# Altium schematic symbol library VESC_MotorController.SCHLIB: 80 symbols
Pins are listed as number, name and electrical type; pins without a type are passive.

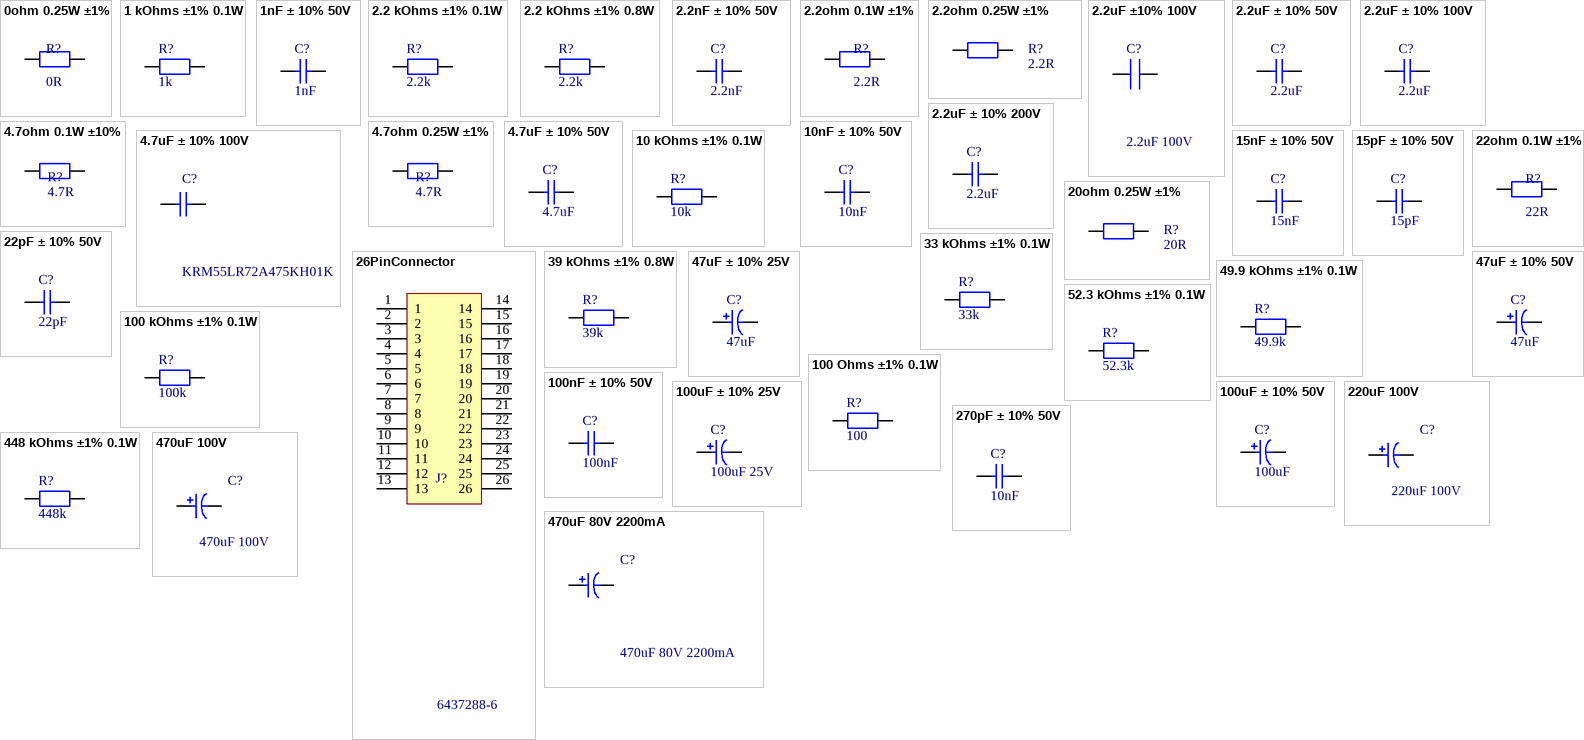
[diagram p0: symbols 0ohm 0.25W ±1% to 470uF 100V]

## 0ohm 0.25W ±1%
designator R?, comment 0R
0 ohm 0.25W ±1%; Manufacturer Part Number: RC1206FR-070RL; Manufacturer: Yageo; Value: 0R; Supplier Part Number: 603-RC1206FR-070RL
footprint R1206
footprint R0603 (RESISTOR SMD 0603)
pins: 1, 2

## 1 kOhms ±1% 0.1W
designator R?, comment 1k
1 kOhms ±1% 0.1W; Manufacturer: Yageo; Manufacturer Part Number: RC0603FR-071KL; Value: 1k; Supplier: Mouser; Supplier Part Number: 603-RC0603FR-071KL; Price: 0.1
footprint R0603 (Footprint not found)
pins: 1, 2

## 1nF ± 10% 50V
designator C?, comment 1nF
1nF ± 10% 50V; Manufacturer: Yageo; Manufacturer Part Number: CS0603KRX79BB102; Value: 1nF; Supplier: mouser; Supplier Part Number: 603-CS0603KRX79BB102; Price: 0.1
footprint C0402
pins: 1, 2

## 2.2 kOhms ±1% 0.1W
designator R?, comment 2.2k
2.2 kOhms ±1% 0.1W; Manufacturer: Yageo; Manufacturer Part Number: RC0603FR-072K2L; Value: 2.2k; Supplier: Mouser; Supplier Part Number: 603-RC0603FR-072K2L; Price: 0.1
footprint R0603 (Footprint not found)
pins: 1, 2

## 2.2 kOhms ±1% 0.8W
designator R?, comment 2.2k
2.2 kOhms ±1% 0.8W; Manufacturer: Yageo; Manufacturer Part Number: RT0805FRE072K2L; Value: 2.2k; Supplier: mouser; Supplier Part Number: 603-RT0805FRE072K2L; Price: 0.1
footprint R0805
pins: 1, 2

## 2.2nF ± 10% 50V
designator C?, comment 2.2nF
2.2nF ± 10% 50V; Manufacturer: Yageo; Manufacturer Part Number: CS0603KRX79BB222; Value: 2.2nF; Supplier: mouser; Supplier Part Number: 603-CS0603KRX79BB222; Price: 0.1
footprint C0402
footprint C0603 (CAPACITOR SMD 0603)
pins: 1, 2

## 2.2ohm 0.1W ±1%
designator R?, comment 2.2R
2.2 ohm 0.1W ±1%; Manufacturer Part Number: RC0603FR-072R2L; Manufacturer: Yageo; Value: 2.2R; Supplier: Mouser; Supplier Part Number: 603-RC0603FR-072R2L; Price: 0.1
footprint R0603 (Footprint not found)
pins: 1, 2

## 2.2ohm 0.25W ±1%
designator R?, comment 2.2R
2.2 ohm 0.25W ±1%; Manufacturer Part Number: RC1206FR-072R2L; Manufacturer: Yageo; Value: 2.2R; Supplier: Mouser; Supplier Part Number: 603-RC1206FR-072R2L; Price: 0.12
footprint R1206 (Footprint not found)
pins: 1, 2

## 2.2uF ±10% 100V
designator C?, comment 2.2uF 100V
Multilayer Ceramic Capacitors MLCC - SMD/SMT 100V 2.2uF X7R 1206 20%TOL HIGH CV; Manufacturer: KYOCERA AVX; Manufacturer Part Number: 12061C225MAT2A; Supplier Part Number: 581-12061C225MAT2A; Supplier: Mouser; Value: 2.2uF 100V; Price: 0.5
footprint CAPC3216X178N
pins: 1, 2

## 2.2uF ± 10% 50V
designator C?, comment 2.2uF
2.2uF ± 10% 50V; Manufacturer: Yageo; Manufacturer Part Number: GRM188R61H225ME11J; Value: 2.2uF; Supplier: mouser; Supplier Part Number: 81-GRM188R61H225ME1J; Price: 0.3
footprint C0603 (Footprint not found)
pins: 1, 2

## 2.2uF ± 10% 100V
designator C?, comment 2.2uF
Multilayer Ceramic Capacitors MLCC - SMD/SMT 1206 100VDC 2.2uF 10% X7S MID HIGH VOL; Manufacturer: Taiyo Yuden; Manufacturer Part Number: HMK316AC7225KL-TE; Value: 2.2uF; Supplier: mouser; Supplier Part Number: 963-HMK316AC7225KL; Price: 0.52
footprint CAPC5764X279N
pins: 1, 2

## 2.2uF ± 10% 200V
designator C?, comment 2.2uF
Multilayer Ceramic Capacitors MLCC - SMD/SMT 200V 2.2uF X7R 2225 10%; Manufacturer: Kyocera avx; Manufacturer Part Number: 22252C225KAT2A; Value: 2.2uF; Supplier: mouser; Supplier Part Number: 581-22252C225KAT2A; Price: 2.4
footprint CAPC5764X279N
pins: 1, 2

## 4.7ohm 0.1W ±10%
designator R?, comment 4.7R
4.7 ohm 0.1W ±1%; Manufacturer Part Number: RC1206FR-074R7L; Manufacturer: Yageo; Value: 4.7R; Supplier: Mouser; Supplier Part Number: 603-RC1206FR-074R7L; Price: 0.12
footprint R0603 (RESISTOR SMD 0603)
pins: 1, 2

## 4.7ohm 0.25W ±1%
designator R?, comment 4.7R
4.7 ohm 0.25W ±1%; Manufacturer Part Number: RC1206FR-074R7L; Manufacturer: Yageo; Value: 4.7R; Supplier: Mouser; Supplier Part Number: 603-RC1206FR-074R7L; Price: 0.12
footprint R1206 (Footprint not found)
pins: 1, 2

## 4.7uF ± 10% 50V
designator C?, comment 4.7uF
4.7uF ± 10% 50V; Manufacturer: Yageo; Manufacturer Part Number: GRM188R61H225ME11J; Value: 4.7uF; Supplier: mouser; Supplier Part Number: 81-GRM188R61H225ME1J; Price: 0.3
footprint C0603 (Footprint not found)
pins: 1, 2

## 4.7uF ± 10% 100V
designator C?, comment KRM55LR72A475KH01K
Capacitor KRM55 L=6.1mm W=5.3mm T=2.8mm; Manufacturer: Murata Electronics; Value: 4.7uF 100V; Supplier Part Number: 81-KRM55LR72A475KH1K; Supplier: Mouser; Manufacturer Part Number: KRM55LR72A475KH01K; Price: 3.2
footprint CAPC6153X300N
pins: 1, 2

## 10 kOhms ±1% 0.1W
designator R?, comment 10k
10 kOhms ±1% 0.1W; Manufacturer: Yageo; Manufacturer Part Number: RC0603FR-0710KL; Value: 10k; Supplier: mouser; Supplier Part Number: 603-RC0603FR-0710KL; Price: 0.1
footprint R0603 (Footprint not found)
pins: 1, 2

## 10nF ± 10% 50V
designator C?, comment 10nF
10nF ± 10% 50V; Manufacturer: Yageo; Manufacturer Part Number: CS0603KRX79BB103; Value: 10nF; Supplier: mouser; Supplier Part Number: 603-CS0603KRX79BB103; Price: 0.1
footprint C0402
footprint C0603 (CAPACITOR SMD 0603)
pins: 1, 2

## 15nF ± 10% 50V
designator C?, comment 15nF
15nF ± 10% 50V; Manufacturer: Yageo; Manufacturer Part Number: CS0603KRX79BB153; Value: 15nF; Supplier: mouser; Supplier Part Number: 603-CS0603KRX79BB153; Price: 0.1
footprint C0402
footprint C0603 (CAPACITOR SMD 0603)
pins: 1, 2

## 15pF ± 10% 50V
designator C?, comment 15pF
15pF ± 10% 50V; Manufacturer: Yageo; Manufacturer Part Number: CS0603KRX79BB150; Value: 15pF; Supplier: mouser; Supplier Part Number: 603-CS0603KRX79BB150; Price: 0.1
footprint C0402
footprint C0603 (CAPACITOR SMD 0603)
pins: 1, 2

## 20ohm 0.25W ±1%
designator R?, comment 20R
20 ohm 0.25W ±1%; Manufacturer Part Number: RC1206FR-0720RL; Manufacturer: Yageo; Value: 20R; Supplier: Mouser; Supplier Part Number: 603-RC1206FR-0720RL; Price: 0.12
footprint R1206 (Footprint not found)
pins: 1, 2

## 22ohm 0.1W ±1%
designator R?, comment 22R
22 ohm 0.1W ±1%; Manufacturer Part Number: RC0603FR-0722RL; Manufacturer: Yageo; Value: 22R; Supplier: Mouser; Supplier Part Number: 603-RC0603FR-0722RL; Price: 0.1
footprint R0603 (Footprint not found)
pins: 1, 2

## 22pF ± 10% 50V
designator C?, comment 22pF
22pF ± 10% 50V; Manufacturer: Yageo; Manufacturer Part Number: CS0603KRX79BB220; Value: 22pF; Supplier: mouser; Supplier Part Number: 603-CS0603KRX79BB220; Price: 0.1
footprint C0402
footprint C0603 (CAPACITOR SMD 0603)
pins: 1, 2

## 26PinConnector
designator J?, comment 6437288-6
Header vert 26 way 4 row Tab Superseal; Manufacturer: TE Connectivity; Supplier Part Number: 571-6437288-6; Manufacturer Part Number: 6437288-6; Supplier: Mouser; Value: 6437288-6
footprint 64372886
pins: 1, 2, 3, 4, 5, 6, 7, 8, 9, 10, 11, 12, 13, 14, 15, 16, 17, 18, 19, 20, 21, 22, 23, 24, 25, 26

## 33 kOhms ±1% 0.1W
designator R?, comment 33k
33 kOhms ±1% 0.1W; Manufacturer: Yageo; Manufacturer Part Number: RC0603FR-0733KL; Value: 33k; Supplier: mouser; Supplier Part Number: 603-RC0603FR-0733KL; Price: 0.1
footprint R0603 (Footprint not found)
pins: 1, 2

## 39 kOhms ±1% 0.8W
designator R?, comment 39k
39 kOhms ±1% 0.8W; Manufacturer: Yageo; Manufacturer Part Number: RT0805FRE0739KL; Value: 39k; Supplier: mouser; Supplier Part Number: 603-RT0805FRE0739KL; Price: 0.1
footprint R1206
pins: 1, 2

## 47uF ± 10% 25V
designator C?, comment 47uF
47uF ± 10% 25V; Manufacturer: Wurth Electronic; Manufacturer Part Number: 860040472001; Value: 47uF; Supplier: mouser; Supplier Part Number: 710-860040472001; Price: 0.18
footprint CAPPRD200W52D500H1250
pins: 1, 2

## 47uF ± 10% 50V
designator C?, comment 47uF
47uF ± 10% 50V; Manufacturer: Kemet; Manufacturer Part Number: ESY476M050AE3AA; Value: 47uF; Supplier: mouser; Supplier Part Number: 80-ESY476M050AE3AA; Price: 0.3
footprint CAPPRD250W50D630H1250
pins: 1, 2

## 49.9 kOhms ±1% 0.1W
designator R?, comment 49.9k
49.9 kOhms ±1% 0.1W; Manufacturer: Yageo; Manufacturer Part Number: RC0603FR-0749K9L; Value: 49.9k; Supplier: mouser; Supplier Part Number: 603-RC0603FR-0749K9L; Price: 0.1
footprint R0603 (Footprint not found)
pins: 1, 2

## 52.3 kOhms ±1% 0.1W
designator R?, comment 52.3k
52.3 kOhms ±1% 0.1W; Manufacturer: Yageo; Manufacturer Part Number: RC0603FR-0752K3L; Value: 52.3k; Supplier: mouser; Supplier Part Number: 603-RC0603FR-0752K3L; Price: 0.1
footprint R0603 (Footprint not found)
pins: 1, 2

## 100 kOhms ±1% 0.1W
designator R?, comment 100k
100 kOhms ±1% 0.1W; Manufacturer: Yageo; Manufacturer Part Number: RC0603FR-07100KL; Value: 100k; Supplier: mouser; Supplier Part Number: 603-RC0603FR-07100KL; Price: 0.1
footprint R0603 (Footprint not found)
pins: 1, 2

## 100 Ohms ±1% 0.1W
designator R?, comment 100
100 Ohms ±1% 0.1W; Manufacturer: Yageo; Manufacturer Part Number: RC0603FR-0710KL; Value: 100; Supplier: mouser; Supplier Part Number: 603-RC0603FR-0710KL; Price: 0.1
footprint R0603 (Footprint not found)
pins: 1, 2

## 100nF ± 10% 50V
designator C?, comment 100nF
100nF ± 10% 50V; Manufacturer: Yageo; Manufacturer Part Number: CS0603KRX7R9BB104; Value: 100nF; Supplier: mouser; Supplier Part Number: 603-CS0603KRX79BB104; Price: 0.1
footprint C0402
footprint C0603 (CAPACITOR SMD 0603)
pins: 1, 2

## 100uF ± 10% 25V
designator C?, comment 100uF 25V
100uF ± 10% 25V; Manufacturer: Kemet; Manufacturer Part Number: ESK107M025AE3AA; Value: 100uF 25V; Supplier: mouser; Supplier Part Number: 80-ESK107M025AE3AA; Price: 0.25
footprint CAPPRD250W50D630H1250
pins: 1, 2

## 100uF ± 10% 50V
designator C?, comment 100uF
100uF ± 10% 50V; Manufacturer: Kemet; Manufacturer Part Number: ESH107M050AG3AA; Value: 100uF; Supplier: mouser; Supplier Part Number: 80-ESH107M050AG3AA; Price: 0.4
footprint CAPPRD350W60D800H1250
pins: 1, 2

## 220uF 100V
designator C?
Aluminum Electrolytic Capacitors - Radial Leaded Al Lytic Cap 85C Radial M Series; Manufacturer: Panasonic; Manufacturer Part Number: ECA-2AM221B; Suplier: Mouser; Supplier Part Number: 667-ECA-2AM221B; Price: 1; Value: 220uF 100V
footprint CAPPRD500W65D1250H2200
pins: 1, 2

## 270pF ± 10% 50V
designator C?, comment 10nF
270pF ± 10% 50V; Manufacturer: Yageo; Manufacturer Part Number: CS0603KRX79BB271; Value: 10nF; Supplier: mouser; Supplier Part Number: 603-CS0603KRX79BB271; Price: 0.1
footprint C0402
footprint C0603 (CAPACITOR SMD 0603)
pins: 1, 2

## 448 kOhms ±1% 0.1W
designator R?, comment 448k
448 kOhms ±1% 0.1W; Manufacturer: Yageo; Manufacturer Part Number: RC0603FR-07448KL; Value: 448k; Supplier: mouser; Supplier Part Number: 603-RC0603FR-07448KL; Price: 0.1
footprint R0603 (Footprint not found)
pins: 1, 2

## 470uF 80V 2200mA
designator C?
Aluminum Electrolytic Capacitors - Radial Leaded 80VDC 470uF 2200mA Polar; Manufacturer: Panasonic; Manufacturer Part Number: EEU-FS1K471L; Supplier Part Number: 667-EEU-FS1K471L; Supplier: Mouser; Value: 470uF 80V; Price: 2
footprint CAPPRD500W80D1250H3200
pins: 1, 2

## 470uF 100V
designator C?
Aluminum Electrolytic Capacitors - Radial Leaded 100volts 470uF 20% 16X35.5 7.5LS; Manufacturer: Nichicon; Manufacturer Part Number: UHE2A471MHD; Suplier: Mouser; Supplier Part Number: 647-UHE2A471MHD; Price: 2; Value: 470uF 100V
footprint CAPPRD750W80D1625H4150
pins: 1, 2

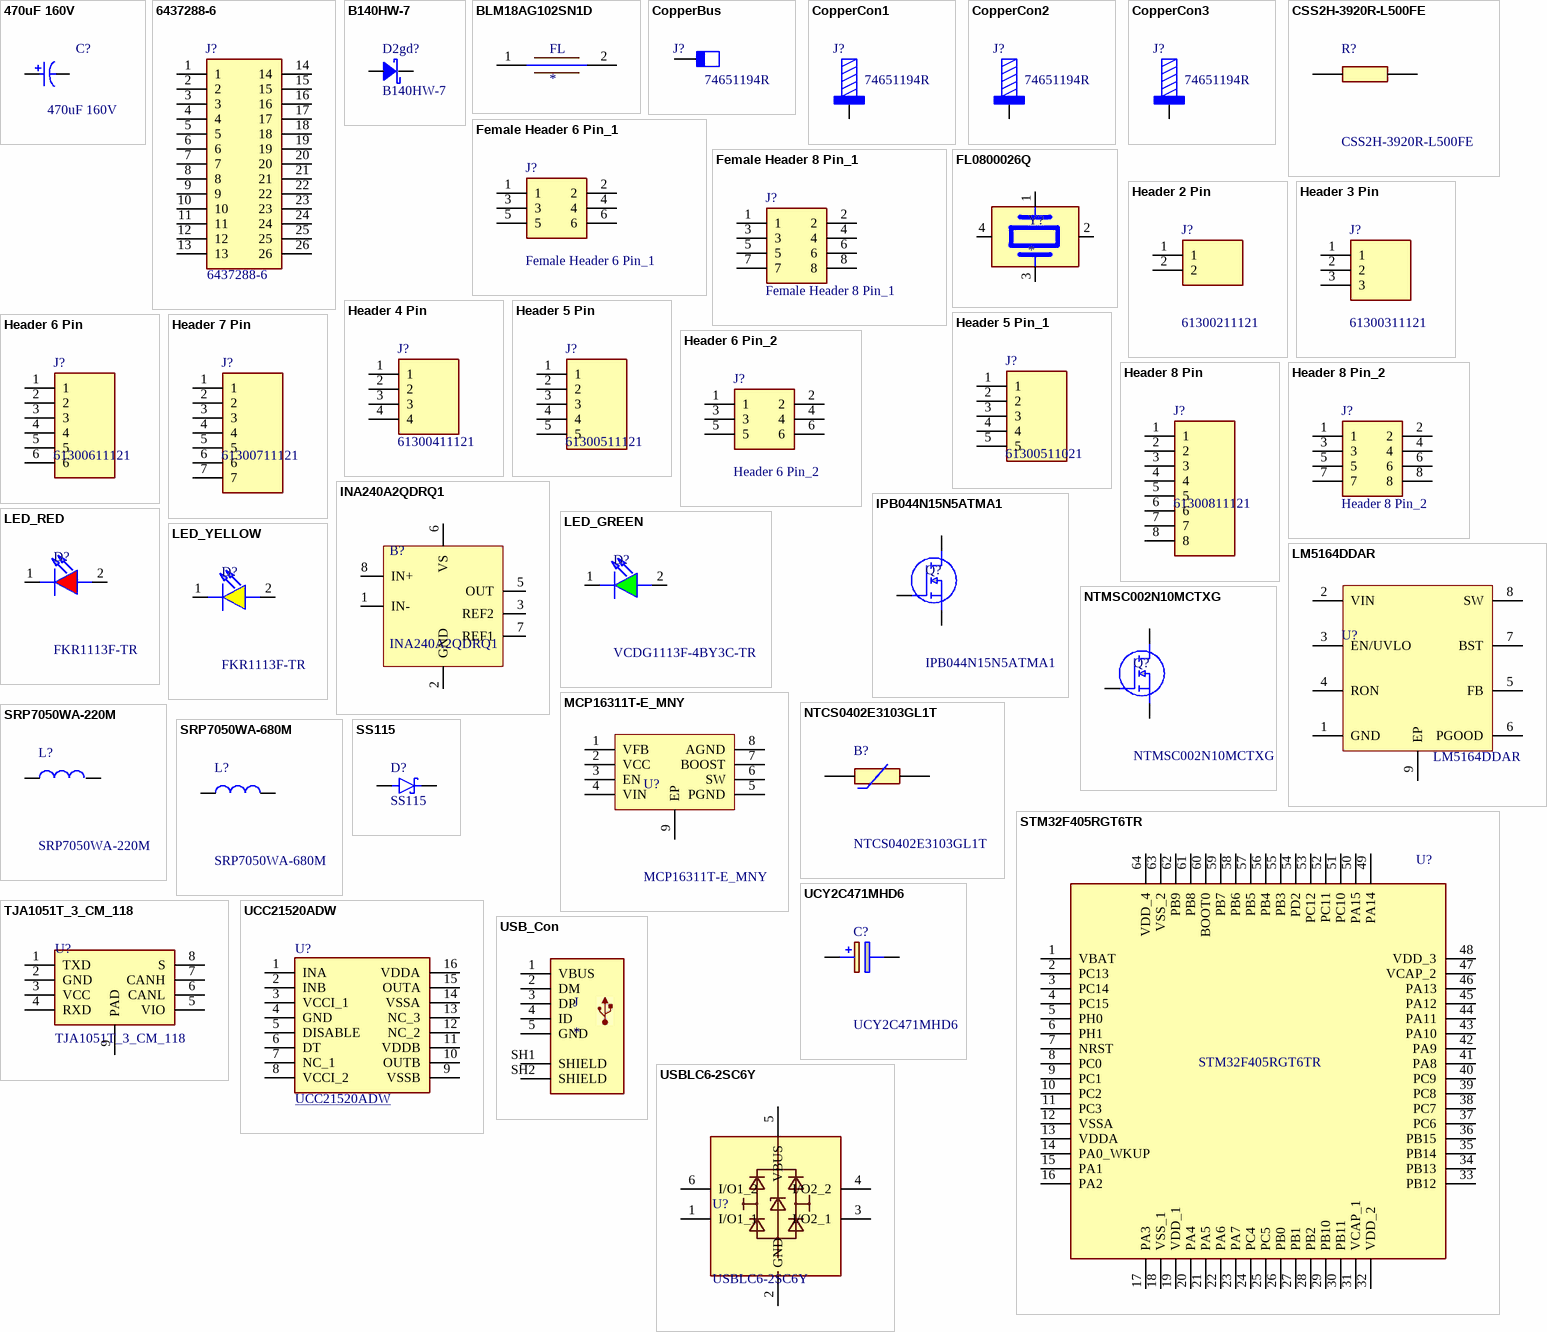
[diagram p1: symbols 470uF 160V to USBLC6-2SC6Y]

## 470uF 160V
designator C?
Cornell-Dubilier 470uF 160 V dc Aluminium Electrolytic Capacitor A3, SLP Series 3000h 22 Dia. x 30mm; Manufacturer: Cornell Dubilier; Manufacturer Part Number: SLP471M160A3P3; Suplier: Mouser; Supplier Part Number: 598-SLP471M160A3P3; Price: 3.3; Value: 470uF 160V
footprint CAPPRD1000W190D2250H3200
pins: 1, 2

## 6437288-6
designator J?
Header vert 26 way 4 row Tab Superseal; Manufacturer: TE Connectivity; Supplier Part Number: 571-6437288-6; Supplier: Mouser; Manufacturer Part Number: 6437288-6; Vlaue: 6437288-6; Price: 2
footprint 64372886
pins: 1, 2, 3, 4, 5, 6, 7, 8, 9, 10, 11, 12, 13, 14, 15, 16, 17, 18, 19, 20, 21, 22, 23, 24, 25, 26

## B140HW-7
designator D2gd?
Schottky Diodes & Rectifiers 1A, 40V; Value: B140HW-7; Manufacturer Part Number: B140HW-7; Manufacturer: Diodes; Supplier: Mouser; Supplier Part Number: 621-B140HW-7; Price: 0.42
footprint SOD123
pins: A, C

## BLM18AG102SN1D
designator FL
Ferrite Beads 1000 OHM 25% Alternate Sizing Guide Below; Manufacturer Part Number: BLM18AG102SN1D; Manufacturer: Murata; Value: BLM18AG102SN1D; Price: 0.1; Supplier Part Number: 81-BLM11A102S; Supplier: Mouser
footprint BLM18EG121SH1D
pins: 1, 2

## CopperBus
designator J?, comment 74651194R
WP-THRSH REDCUBE THR with external thread, M4 x 5mm, 85A; Manufacturer: Wurth Elektronik; Surface: Tin; ComponentLink1Description: Website Link; ComponentLink1URL: https://www.we-online.com/redexpert/article/74651194R?ad; ComponentLink2Description: Datasheet Link; ComponentLink2URL: https://www.we-online.com/redexpert/spec/74651194R?ad; Manufacturer Part Number: 74651194R; Category: REDCUBE THR; Match Code: WP-THRSH; Mount: Through Hole Reflow; Operating Temperature Max: 150°C; Operating Temperature Min: -55°C; Packaging: Tape and Reel; Length: 10mm; Width: 10mm; Height: 8.5mm; Material: Brass; Number of Pins: 9; Rated Current: 85A; Thread Length: 5mm; Thread Size: M4; Supplier: Mouser; Supplier Part Number: 710-74651195R; Price: 3.5; Value: 74651194R
footprint COPPER_BUS
pins: 1

## CopperCon1
designator J?, comment 74651194R
WP-THRSH REDCUBE THR with external thread, M4 x 5mm, 85A; Manufacturer: Wurth Elektronik; Surface: Tin; ComponentLink1Description: Website Link; ComponentLink1URL: https://www.we-online.com/redexpert/article/74651194R?ad; ComponentLink2Description: Datasheet Link; ComponentLink2URL: https://www.we-online.com/redexpert/spec/74651194R?ad; Manufacturer Part Number: 74651194R; Category: REDCUBE THR; Match Code: WP-THRSH; Mount: Through Hole Reflow; Operating Temperature Max: 150°C; Operating Temperature Min: -55°C; Packaging: Tape and Reel; Length: 10mm; Width: 10mm; Height: 8.5mm; Material: Brass; Number of Pins: 9; Rated Current: 85A; Thread Length: 5mm; Thread Size: M4; Supplier: Mouser; Supplier Part Number: 710-74651195R; Price: 3.5; Value: 74651194R
footprint COPPER_CON1
pins: 1

## CopperCon2
designator J?, comment 74651194R
WP-THRSH REDCUBE THR with external thread, M4 x 5mm, 85A; Manufacturer: Wurth Elektronik; Surface: Tin; ComponentLink1Description: Website Link; ComponentLink1URL: https://www.we-online.com/redexpert/article/74651194R?ad; ComponentLink2Description: Datasheet Link; ComponentLink2URL: https://www.we-online.com/redexpert/spec/74651194R?ad; Manufacturer Part Number: 74651194R; Category: REDCUBE THR; Match Code: WP-THRSH; Mount: Through Hole Reflow; Operating Temperature Max: 150°C; Operating Temperature Min: -55°C; Packaging: Tape and Reel; Length: 10mm; Width: 10mm; Height: 8.5mm; Material: Brass; Number of Pins: 9; Rated Current: 85A; Thread Length: 5mm; Thread Size: M4; Supplier: Mouser; Supplier Part Number: 710-74651195R; Price: 3.5; Value: 74651194R
footprint COPPER_CON2
pins: 1

## CopperCon3
designator J?, comment 74651194R
WP-THRSH REDCUBE THR with external thread, M4 x 5mm, 85A; Manufacturer: Wurth Elektronik; Surface: Tin; ComponentLink1Description: Website Link; ComponentLink1URL: https://www.we-online.com/redexpert/article/74651194R?ad; ComponentLink2Description: Datasheet Link; ComponentLink2URL: https://www.we-online.com/redexpert/spec/74651194R?ad; Manufacturer Part Number: 74651194R; Category: REDCUBE THR; Match Code: WP-THRSH; Mount: Through Hole Reflow; Operating Temperature Max: 150°C; Operating Temperature Min: -55°C; Packaging: Tape and Reel; Length: 10mm; Width: 10mm; Height: 8.5mm; Material: Brass; Number of Pins: 9; Rated Current: 85A; Thread Length: 5mm; Thread Size: M4; Supplier: Mouser; Supplier Part Number: 710-74651195R; Price: 3.5; Value: 74651194R
footprint COPPER_CON3
pins: 1

## CSS2H-3920R-L500FE
designator R?
Current Sense Resistors - SMD 0.5mOHMS 9W 1% AEC-Q200; Manufacturer: Bourns; Value: 0.5ohm 9W; Supplier Part Number: 652-CSS2H3920RL500FE; Supplier: Mouser; Manufacturer Part Number: CSS2H-3920R-L500FE; Price: 2
footprint RESC10052X137N
pins: 1, 2

## Female Header 6 Pin_1
designator J?
Headers & Wire Housings WERI Header 2,54 mm SMT; Manufacturer: Wurth Elektronik; Manufacturer Part Number: 61030621821; Value: 61030621821; Supplier Part Number: 710-61030621821; Supplier: Mouser; Price: 1.8
footprint 61030621821
pins: 1, 2, 3, 4, 5, 6

## Female Header 8 Pin_1
designator J?
Headers & Wire Housings WR-PHD 250VAC 3A Gry 2Row 8Pos Strgt; Manufacturer: Wurth Elektronik; Manufacturer Part Number: 61030821821; Value: 61030821821; Supplier Part Number: 710-61030821821; Supplier: Mouser; Price: 1.8
footprint 61030821821
pins: 1, 2, 3, 4, 5, 6, 7, 8

## FL0800026Q
designator Y?
8 MHz A±30ppm Crystals Crystal Ceramic SEAM3225 T&R 3K; Manufacturer: Diodes Incorporated; Manufacturer Part Number: FL0800026Q; Value: 8MHz; Price: 0.38; Supplier: Mouser; Supplier Part Number: 621-FL0800026Q
footprint XTAL_FL0800026Q
pins: 1, 2 GND (power), 3 2, 4 GND (power)

## Header 2 Pin
designator J?, comment 61300211121
Headers & Wire Housings WR-PHD 2.54mm 2Pin T HT Header; Manufacturer: Wurth Electronic; Supplier Part Number: 710-61300211121; Supplier: Mouser; Manufacturer Part Number: 61300211121; Price: 0.13; Value: 61300211121
footprint 61300211121
pins: 1, 2

## Header 3 Pin
designator J?, comment 61300311121
Headers & Wire Housings WR-PHD 2.54mm Hdr 3P Single Str Gold; Manufacturer: Wurth Electronic; Supplier Part Number: 710-61300311121; Supplier: Mouser; Manufacturer Part Number: 61300311121; Price: 0.13; Value: 61300311121
footprint 61300311121
pins: 1, 2, 3

## Header 4 Pin
designator J?, comment 61300411121
Headers & Wire Housings WR-PHD 2.54mm Hdr 4P Single Str Gold; Manufacturer: Wurth Electronic; Supplier Part Number: 710-61300411121; Supplier: Mouser; Manufacturer Part Number: 61300411121; Price: 0.19; Value: 61300411121
footprint 61300411121
pins: 1, 2, 3, 4

## Header 5 Pin
designator J?, comment 61300511121
Headers & Wire Housings WR-PHD 2.54mm Hdr 5P Single Str Gold; Manufacturer: Wurth Electronic; Supplier Part Number: 710-61300511121; Supplier: Mouser; Manufacturer Part Number: 61300511121; Price: 0.26; Value: 61300511121
footprint 61300511121
pins: 1, 2, 3, 4, 5

## Header 5 Pin_1
designator J?, comment 61300511021
Headers & Wire Housings WR-PHD 2.54mm Hdr 5P Single RA Gold; Manufacturer: Wurth Electronic; Supplier Part Number: 710-61300511021; Supplier: Mouser; Manufacturer Part Number: 61300511021; Price: 0.44; Value: 61300511021
footprint 61300511021 (Pin Header, pitch 2.54 mm, THT, Vertical, single row, 5p)
pins: 1, 2, 3, 4, 5

## Header 6 Pin
designator J?, comment 61300611121
Headers & Wire Housings WR-PHD 2.54mm Hdr 5P Single Str Gold; Manufacturer: Wurth Electronic; Supplier Part Number: 710-61300611121; Supplier: Mouser; Manufacturer Part Number: 61300611121; Price: 0.35; Value: 61300611121
footprint 61300611121
pins: 1, 2, 3, 4, 5, 6

## Header 6 Pin_2
designator J?
WR-PHD 2.54mm  Dual Pin Header THT 06p Wurth Elektronik WR-PHD Series, Series Number 6130, 2.54mm Pitch 6 Way 2 Row Straight PCB Header, Solder Termination; Manufacturer Part Number: 61300621121; Value: 61300621121; Supplier Part Number: 710-61300621121; Supplier: Mouser; Manufacturer: Wurth Elektronik; Price: 0.57
footprint 61300621121
pins: 1, 2, 3, 4, 5, 6

## Header 7 Pin
designator J?, comment 61300711121
Headers & Wire Housings WR-PHD 2.54mm Hdr 7P Single Str Gold; Manufacturer: Wurth Electronic; Supplier Part Number: 710-61300711121; Supplier: Mouser; Manufacturer Part Number: 61300711121; Price: 0.4; Value: 61300711121
footprint 61300711121
pins: 1, 2, 3, 4, 5, 6, 7

## Header 8 Pin
designator J?, comment 61300811121
Headers & Wire Housings WR-PHD 2.54mm Hdr 8P Single Str Gold; Manufacturer: Wurth Electronic; Supplier Part Number: 710-61300811121; Supplier: Mouser; Manufacturer Part Number: 61300811121; Price: 0.4; Value: 61300811121
footprint 61301821121
pins: 1, 2, 3, 4, 5, 6, 7, 8

## Header 8 Pin_2
designator J?
Headers & Wire Housings WR-PHD 2.54mm Hdr 8P Dual Str Gold; Manufacturer: Wurth Elektronik; Manufacturer Part Number: 61300821121; Value: 61300821121; Supplier Part Number: 710-61300621121; Supplier: Mouser; Price: 0.7
footprint 61300821121
pins: 1, 2, 3, 4, 5, 6, 7, 8

## INA240A2QDRQ1
designator B?
Automotive, High/Low Side, Bi-Directional Zer-Drift Current Sense Amp w/ Enhanced PWM Rejection; Manufacturer: Texas Instruments; Supplier Part Number: 595-INA240A2QDRQ1; Supplier: Mouser; Manufacturer Part Number: INA240A2QDRQ1; Price: 3.8; Value: INA240A2QDRQ1
footprint SOIC127P600X175-8N
pins: 1 IN-, 2 GND, 3 REF2, 5 OUT, 6 VS, 7 REF1, 8 IN+

## IPB044N15N5ATMA1
designator Q?
INFINEON - IPB044N15N5ATMA1 - Power MOSFET, N Channel, 150 V, 174 A, 0.0034 ohm, TO-263 (D2PAK), Surface Mount; Supplier Part Number: 726-IPB044N15N5ATMA1; Supplier: Mouser; Manufacturer: Infineon; Manufacturer Part Number: IPB044N15N5ATMA1; Price: 8.8; Value: IPB044N15N5ATMA1
footprint IPB044N15N5ATMA1
pins: DRAIN, GATE, SOURCE

## LED_GREEN
designator D?, comment VCDG1113F-4BY3C-TR
R/A LED; Manufacturer: Stanley Electric; Value: Green; Supplier Part Number: 327-VCDG1113F4BY3CTR; Supplier: Mouser; Manufacturer Part Number: VCDG1113F-4BY3C-TR; Price: 0.5
footprint VCDG1113F4BY3CTR
pins: 1 K, 2 A

## LED_RED
designator D?, comment FKR1113F-TR
R/A LED; Manufacturer: Stanley Electric; Value: Red; Supplier Part Number: 327-FKR1113FTR; Supplier: Mouser; Manufacturer Part Number: FKR1113F-TR; Price: 0.5
footprint VCDG1113F4BY3CTR
pins: 1 K, 2 A

## LED_YELLOW
designator D?, comment FKR1113F-TR
R/A LED; Manufacturer: Stanley Electric; Manufacturer Part Number: FKY1113F-TR; Value: Yellow; Supplier Part Number: 327-FKY1113FTR; Supplier: Mouser; Price: 0.5
footprint VCDG1113F4BY3CTR
pins: 1 K, 2 A

## LM5164DDAR
designator U?
Texas Instruments 6-V to 100-V Input, 1-A Synchronous Buck DC-DC Converter With Ultra-Low IQ 8-SO PowerPAD -40 to 150; Value: 1.7mm; Supplier Part Number: 595-LM5164DDAR; Price: 3.5; Manufacturer: Texas Instruments; Manufacturer Part Number: LM5164DDAR; Supplier: Mouser
footprint SOIC-8(EPAD)
pins: 1 GND, 2 VIN, 3 EN/UVLO, 4 RON, 5 FB, 6 PGOOD, 7 BST, 8 SW, 9 EP

## MCP16311T-E_MNY
designator U?
Microchip, MCP16311T-E/MNY Step Down DC-DC Converter 1A Adjustable, 2  24 V 8-Pin, TDFN; Supplier Part Number: 579-MCP16311T-E/MNY; Price: 1.8; Manufacturer: Microchip; Manufacturer Part Number: MCP16311T-E/MNY; Value: MCP16311T-E/MNY; Supplier: Mouser
footprint MSOP-8
pins: 1 VFB, 2 VCC, 3 EN, 4 VIN, 5 PGND, 6 SW, 7 BOOST, 8 AGND, 9 EP

## NTCS0402E3103GL1T
designator B?
NTC Thermistors 10Kohms 2% AEC-Q200; Manufacturer: Vishay; Supplier Part Number: 594-NTCS402E3103GL1T; Supplier: Mouser; Manufacturer Part Number: NTCS0402E3103GL1T; Price: 0.47; Value: NTCS0402E3103GL1T
footprint THRMC1005X65N
pins: 1, 2

## NTMSC002N10MCTXG
designator Q?
MOSFET Single N-Channel Power MOSFET 100V, 236A, 2.0mohm; Manufacturer: Onsemi; Manufacturer Part Number: NTMTSC002N10MCTXG; Supplier Part Number: 863-TMTSC002N10MCTXG; Supplier: Mouser; Price: 5.9; Value: NTMSC002N10MCTXG
footprint NTMSC002N10MCTXG
pins: DRAIN, GATE, SOURCE

## SRP7050WA-220M
designator L?
Ind,7.9x7.3x5.2mm,22uH+/-20%,5A,shd; Manufacturer: Bourns; Value: 22uH; Supplier Part Number: 652-SRP7050WA-220M; Supplier: Mouser; Manufacturer Part Number: SRP7050WA-220M; Price: 1
footprint INDPM7973X540N
pins: 1, 2

## SRP7050WA-680M
designator L?
Ind,7.9x7.3x5.2mm,68uH+/-20%,2.7A,shd; Manufacturer: Bourns; Value: 68uH; Supplier Part Number: 652-SRP7050WA-680M; Supplier: Mouser; Manufacturer Part Number: SRP7050WA-680M; Price: 1
footprint INDPM7973X540N
pins: 1, 2

## SS115
designator D?
Schottky Diodes & Rectifiers 1A, 150V, Schottky Rectifier; Manufacturer: Taiwan Semiconductor; Value: 1A, 150V; Price: 0.34; Supplier: Mouser; Manufacturer Part Number: SS115; Supplier Part Number: 821-SS115
footprint DIOM4325X250N
pins: A, C K

## STM32F405RGT6TR
designator U?
STM32F405RGT6TR, 32 bit ARM Cortex M4 MCU 168MHz 1024 kB Flash, 192 kB RAM, 2xUSB CAN I2C 64-Pin LQFP; Manufacturer: STMicroelectronics; Supplier Part Number: 511-STM32F405RGT6TR; Supplier: Mouser; Manufacturer Part Number: STM32F405RGT6TR; Value: STM32F405RGT6TR; Price: 11.6
footprint QFP50P1200X1200X160-64N
pins: 1 VBAT, 2 PC13, 3 PC14, 4 PC15, 5 PH0, 6 PH1, 7 NRST, 8 PC0, 9 PC1, 10 PC2, 11 PC3, 12 VSSA, 13 VDDA, 14 PA0_WKUP, 15 PA1, 16 PA2, 17 PA3, 18 VSS_1, 19 VDD_1, 20 PA4, 21 PA5, 22 PA6, 23 PA7, 24 PC4, 25 PC5, 26 PB0, 27 PB1, 28 PB2, 29 PB10, 30 PB11, 31 VCAP_1, 32 VDD_2, 33 PB12, 34 PB13, 35 PB14, 36 PB15, 37 PC6, 38 PC7, 39 PC8, 40 PC9, 41 PA8, 42 PA9, 43 PA10, 44 PA11, 45 PA12, 46 PA13, 47 VCAP_2, 48 VDD_3, 49 PA14, 50 PA15, 51 PC10, 52 PC11, 53 PC12, 54 PD2, 55 PB3, 56 PB4, 57 PB5, 58 PB6, 59 PB7, 60 BOOT0, 61 PB8, 62 PB9, 63 VSS_2, 64 VDD_4

## TJA1051T_3_CM_118
designator U?
CAN Interface IC BL Advanced Automotive Analog; Manufacturer: NXP Semiconductors; Manufacturer Part Number: TJA1051T/3/CM,118; Value: TJA1051T/3/CM,118; Supplier Part Number: 771-TJA1051T/3CM118; Supplier: Mouser; Price: 1.6
footprint SOIC127P600X175-8N
pins: 1 TXD, 2 GND, 3 VCC (power), 4 RXD, 5 VIO, 6 CANL, 7 CANH, 8 S, 9 PAD

## UCC21520ADW
designator U?
4A/6A, 5.7 kVrms Isolated Dual Channel Gate Driver; Manufacturer: Texas Instruments; Supplier Part Number: 595-UCC21520ADW; Value: UCC21520ADW; Manufacturer Part Number: UCC21520ADW; Price: 5.2; Supplier: Mouser
footprint SOIC127P1030X265-16N
pins: 1 INA, 2 INB, 3 VCCI_1, 4 GND, 5 DISABLE, 6 DT, 7 NC_1, 8 VCCI_2, 9 VSSB, 10 OUTB, 11 VDDB, 12 NC_2, 13 NC_3, 14 VSSA, 15 OUTA, 16 VDDA

## UCY2C471MHD6
designator C?
CAP ALUM 470UF 20% 160V RADIAL; Manufacturer: Nichicon; Value: 470uF 160 Volts 20% AEC-Q200; Mouser Part Number: 647-UCY2C471MHD6; Supplier: Mouser; Supplier Part Number: UCY2C471MHD6; Price: 5.35
footprint CAPPRD750W80D1625H4150
pins: 1 +, 2 -

## USB_Con
designator J
USB - micro B USB 2.0 Receptacle Connector 5 Position Through Hole; Manufacturer Part Number: 614105150721; Manufacturer: Wurth Electronics; Value: 614105150721; Price: 2; Supplier Part Number: 710-614105150721; Supplier: Mouser
footprint 10118194-0001LF (CONN USB MICRO B RECPT SMT R/A)
footprint WURTH_614105150721
pins: 1 VBUS, 2 DM, 3 DP, 4 ID, 5 GND, SH1 SHIELD, SH2 SHIELD

## USBLC6-2SC6Y
designator U?
Low Cap. ESD Protection Auto SOT-23-6 STMicroelectronics USBLC6-2SC6Y, Dual Uni-Directional TVS Diode Array, 6-Pin SOT-23; Supplier Part Number: 511-USBLC6-2SC6Y; Supplier: Mouser; Manufacturer Part Number: USBLC6-2SC6Y; Price: 1; Manufacturer: STMicroelectronics; Value: USBLC6-2SC6Y
footprint SOT95P280X145-6N
pins: 1 I/O1_1, 2 GND, 3 I/O2_1, 4 I/O2_2, 5 VBUS, 6 I/O1_2